# EAGLE library part LDD-43CR1 (library Disp)
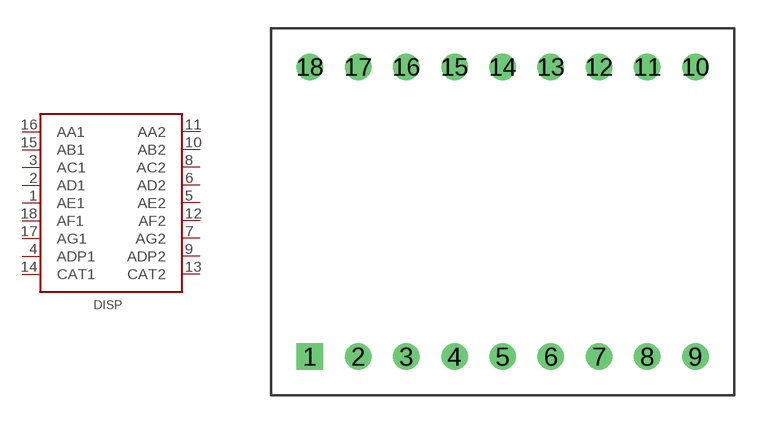
[diagram p7: symbol with the pads of LDD-X43XRI; footprint LDD-X43XRI]

Designator prefix DISP

## LDD-43CR1  [LDD-X43XRI]
1  AE1  pas
2  AD1  pas
3  AC1  pas
4  ADP1  pas
5  AE2  pas
6  AD2  pas
7  AG2  pas
8  AC2  pas
9  ADP2  pas
10  AB2  pas
11  AA2  pas
12  AF2  pas
13  CAT2  pas
14  CAT1  pas
15  AB1  pas
16  AA1  pas
17  AG1  pas
18  AF1  pas

## Footprint LDD-X43XRI (pad centres in mm)
drill 0.889 square: 1 -10.16,-7.62
drill 0.889 round: 2 -7.62,-7.62; 3 -5.08,-7.62; 4 -2.54,-7.62; 5 0,-7.62; 6 2.54,-7.62; 7 5.08,-7.62; 8 7.62,-7.62; 9 10.16,-7.62; 10 10.16,7.62; 11 7.62,7.62; 12 5.08,7.62; 13 2.54,7.62; 14 0,7.62; 15 -2.54,7.62; 16 -5.08,7.62; 17 -7.62,7.62; 18 -10.16,7.62